# Altium schematic symbol library Schlib1.SchLib: 14 symbols
Pins are listed as number, name and electrical type; pins without a type are passive.

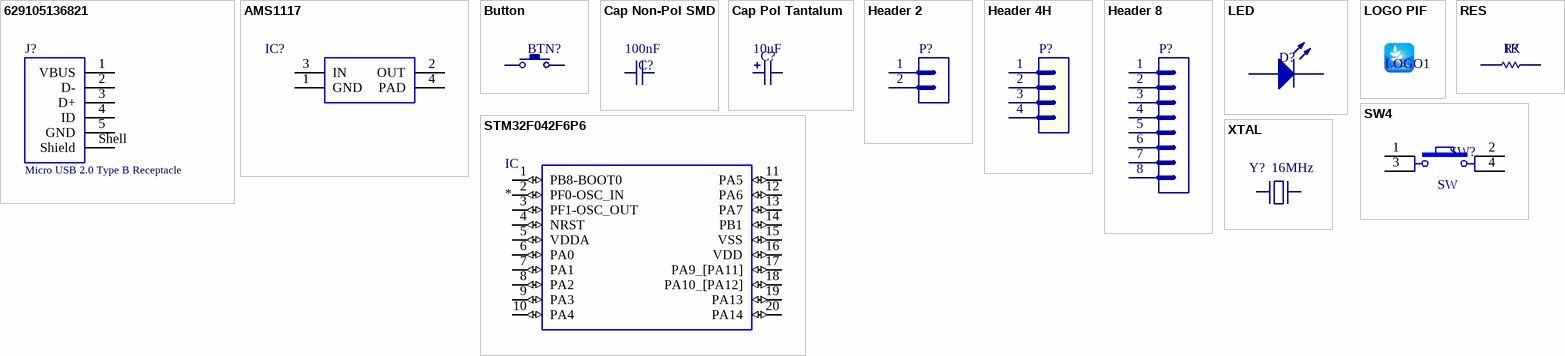
[diagram p0: symbols 629105136821 to XTAL]

## 629105136821
designator J?, comment Micro USB 2.0 Type B Receptacle
Micro USB 2.0 Type B, Receptacle, Horizontal, SMT; Manufacturer: Wurth Elektronik; Manufacturer Part Number: 629105136821; Rated Current: 1A; Pin Number: 5; Interface Type: Type B; Working Voltage: 30VAC; ComponentLink1Description: Manufacturer; ComponentLink1URL: http://www.we-online.de; ComponentLink2Description: Datasheet; ComponentLink2URL: https://katalog.we-online.com/em/datasheet/629105136821.pdf; Published Date: August 2020; Gender: Receptacle; Type: Horizontal; Packaging: Tape and Reel; Operating Temperature: -40 to +105degC; Mounting Technology: SMT; Application: Micro USB 2.0
footprint 629105136821
pins: 1 VBUS, 2 D-, 3 D+, 4 ID, 5 GND, Shell Shield

## AMS1117
designator IC?
Available in 1.8V, 2.5V, 2.85V, 3.3V, 5V, and  Adjustable Versions; Value: LM317
footprint SOT223 (SOT223, 4-Leads, Body 6.5x3.5mm, Pitch 2.3mm, Lead Span 7mm, IPC Medium Density)
pins: 1 GND, 2 OUT, 3 IN, 4 PAD

## Button
designator BTN?  (value not drawn)
footprint 434123050836 (SMD Tact Switch, body 6x3.5mm)
pins: 1, 2

## Cap Non-Pol SMD
designator C?  value 100nF  (hidden comment: Cap Non-Pol SMD)
Capacitor
footprint CAP-SM-0805
pins: 1, 2

## Cap Pol Tantalum
designator C?, comment Capacitance: 10uF  (hidden comment: Capacitors)
Capacitors Tantalum; Manufacturer: Kemet; Manufacturer Part Number: T491A106K010AT; Manufacturer Size Code: A; Tolerance: ±10%; Voltage - Rated: 10V; ESR (Equivalent Series Resistance): 3.8 Ohm; Type: Molded; Lifetime @ Temp.: 2000 Hrs @ 85°C; Supplier 1: Digi-Key; RoHS: RoHS Compliant; Category: Capacitors; Stock 1: 316000; Pricing 1: 2000=0.0626, 4000=0.05791, 10000=0.05478, 14000=0.05196, 50000=0.04695, 100000=0.04147 (USD); Packaging: Tape & Reel (TR); Part Status: Active; Operating Temperature: -55°C ~ 125°C; Mounting Type: Surface Mount; Package / Case: 1206 (3216 Metric); Size / Dimension: 0.126" L x 0.063" W (3.20mm x 1.60mm); Height - Seated (Max): 0.071" (1.80mm); Lead Spacing: -; Features: General Purpose; ComponentLink1URL: http://www.kemet.com/Lists/ProductCatalog/Attachments/254/KEM_T2005_T491.pdf; ComponentLink1Description: http://www.kemet.com/Lists/ProductCatalog/Attachments/254/KEM_T2005_T491.pdf
footprint C_TANTALUM_3216_18
pins: 1, 2

## Header 2
designator P?
Header, 2-Pin; LatestRevisionDate: 17-Jul-2002; LatestRevisionNote: Re-released for DXP Platform.; Publisher: Altium Limited
footprint JP2
pins: 1, 2

## Header 4H
designator P?
Header, 4-Pin, Right Angle; LatestRevisionDate: 17-Jul-2002; LatestRevisionNote: Re-released for DXP Platform.; Publisher: Altium Limited
footprint JP4H
pins: 1, 2, 3, 4

## Header 8
designator P?
Header, 8-Pin; LatestRevisionDate: 17-Jul-2002; LatestRevisionNote: Re-released for DXP Platform.; Publisher: Altium Limited
footprint JP8
pins: 1, 2, 3, 4, 5, 6, 7, 8

## LED
designator D?  (value not drawn)
footprint LED_0805_Blue (Chip LED, 2-Leads, Body 2.0x1.3mm, IPC Medium Density)
pins: 1 A, 2 K

## LOGO PIF
designator LOGO1  (value not drawn)
footprint PIF LOGO BOTTOM OVERLAY
footprint PIF LOGO TOP OVERLAY

## RES
designator R?, comment value 1K  (hidden comment: Resistor 1/4W)
footprint RES-SM-0805
pins: 1, 2

## STM32F042F6P6
designator IC
ARMÂ® CortexÂ®-M0 STM32F0 Microcontroller IC 32-Bit 48MHz 32KB _32K x 8_ FLASH 20-TSSOP; MP: STM32F042F6P6; MF: STMicroelectronics; Availability: Unavailable; SnapEDA_Link: https://www.snapeda.com/parts/STM32F042F6P6/STMicroelectronics/view-part/109253/?ref=snap; Value: *; Price: None; Package: TSSOP-20 STMicroelectronics
footprint TSSOP20
pins: 1 PB8-BOOT0 (io), 2 PF0-OSC_IN (io), 3 PF1-OSC_OUT (io), 4 NRST (io), 5 VDDA (io), 6 PA0 (io), 7 PA1 (io), 8 PA2 (io), 9 PA3 (io), 10 PA4 (io), 11 PA5 (io), 12 PA6 (io), 13 PA7 (io), 14 PB1 (io), 15 VSS (io), 16 VDD (io), 17 PA9_[PA11] (io), 18 PA10_[PA12] (io), 19 PA13 (io), 20 PA14 (io)

## SW4
designator SW?, comment SW
Switch button 4 pin; Value: Button chip 4 pin
footprint 4301x60437x6 (6x6mm Tact Switch, THT version)
pins: 1, 2, 3, 4

## XTAL
designator Y?, comment 16MHz
Crystal For all Crystal 2pin
footprint XTAL (Footpin for Crystal 2 pin)
footprint XTAL 32768 3x8 (Crystal for 32,768kHz, 2pin)
footprint XT2 (Footpin for Crystal 2 pin)
footprint XTAL 32768 2x6 (Crystal for 32,768kHz, 2pin)
pins: 1, 2